# Altium footprint library Deutsch ICT Con - DTF13-6P.PcbLib: 1 footprints
Each footprint in its own frame and in the unit in brackets; x right, y up, seen from the top. Pads: shape width x height; smd on the part's side, far side on the other; paste and mask are expansions set on the pad; w line width, h text height; cw(c..) or ccw(c..) is an arc to the next point about the centre after c.
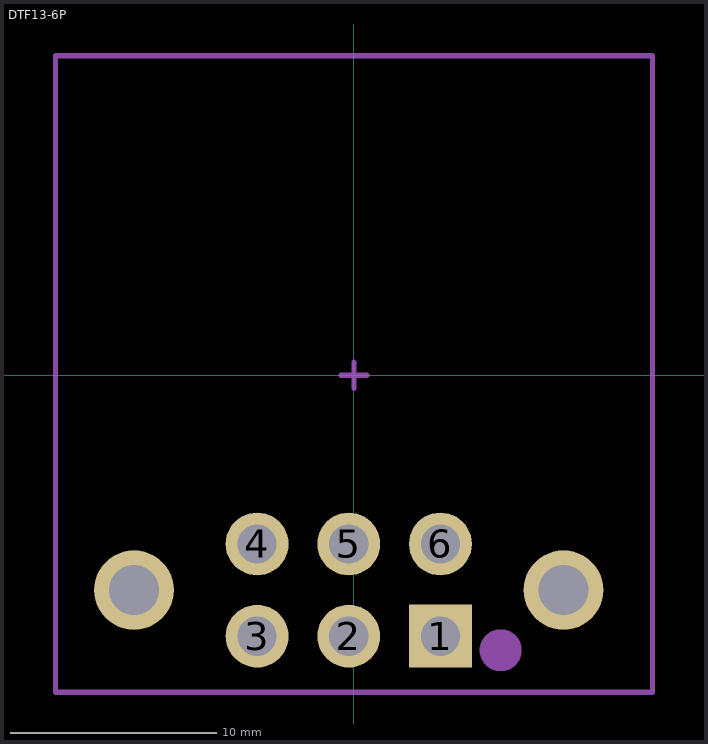
[diagram p0: the footprint, top view; thin cyan lines are the x and y axes]

## DTF13-6P [mil] "CONN HEADER R/A 6POS 4.44MM"
pads (8):
  rect 120x120 hole 75: 1(165,-498)
  round 120 hole 75: 2(-10,-498) 3(-185,-498) 4(-185,-322) 5(-10,-322) 6(165,-322)
  round 152 hole 95: ""(-420,-410) ""(400,-410)
Mechanical 6:
  text ".Designator" at -190,25 h60
Mechanical 8:
  circle w70: c280,-525 r5
  lines w10: -570,-605 570,-605 570,610 -570,610 -570,-605
Mechanical 15:
  lines w10: -25,0 25,0 ; 0,-25 0,25 ; -570,-605 570,-605 570,610 -570,610 -570,-605
3D body "c-dtf13-6p-99-3d.stp": height 885, standoff -114.5, extent -545.5,-580 545.5,585